# EAGLE library part HX711ADC (library newlib)
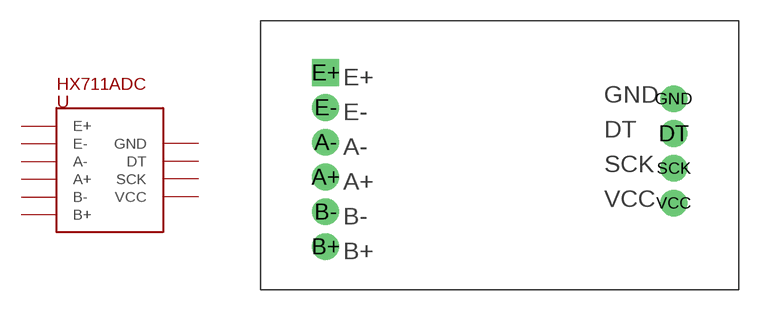
[diagram p0: symbol with the pads of HX711ADC; footprint HX711ADC]

Designator prefix U

## HX711ADC  [HX711ADC]
A+  A+
A-  A-
B+  B+
B-  B-
DT  DT
E+  E+
E-  E-
GND  GND
SCK  SCK
VCC  VCC

## Footprint HX711ADC (pad centres in mm)
drill 1.3: A+ -13.97,-1.587; A- -13.97,0.953; B+ -13.97,-6.668; B- -13.97,-4.128; DT 11.43,1.587; E- -13.97,3.493; GND 11.43,4.128; SCK 11.43,-0.953; VCC 11.43,-3.493
drill 1.3 square: E+ -13.97,6.032